# EAGLE library part SPI_DIL8 (library debauer_ics)
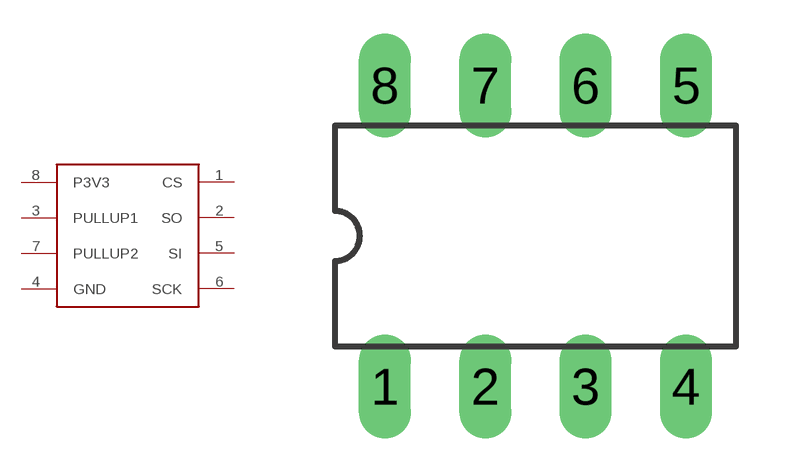
[diagram p10: symbol with the pads of DIL08; footprint DIL08]

Designator prefix -

## SPI_DIL8  [DIL08]
1  CS
2  SO
3  PULLUP1
4  GND
5  SI
6  SCK
7  PULLUP2
8  P3V3

## Footprint DIL08 (pad centres in mm)
Dual In Line
drill 0.813 long: 1 -3.81,-3.81; 2 -1.27,-3.81; 3 1.27,-3.81; 4 3.81,-3.81; 5 3.81,3.81; 6 1.27,3.81; 7 -1.27,3.81; 8 -3.81,3.81